# Altium schematic symbol library NPN_SOT23.SchLib: 1 symbol
Pins are listed as number, name and electrical type; pins without a type are passive.

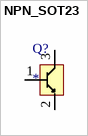
[diagram p0: symbol NPN_SOT23]

## NPN_SOT23
designator Q?
Transistor 3-terminal (SOT-23)
pins: 1, 2, 3